# Altium schematic symbol library Transformadores.SchLib: 1 symbol
Pins are listed as number, name and electrical type; pins without a type are passive.

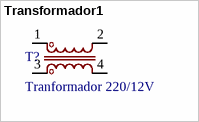
[diagram p0: symbol Transformador1]

## Transformador1
designator T?, comment Tranformador 220/12V
footprint Tranformador1
pins: 1, 2, 3, 4